# Altium footprint library magnetics.PcbLib: 2 footprints
Each footprint in its own frame and in the unit in brackets; x right, y up, seen from the top. Pads: shape width x height; smd on the part's side, far side on the other; paste and mask are expansions set on the pad; w line width, h text height; cw(c..) or ccw(c..) is an arc to the next point about the centre after c.
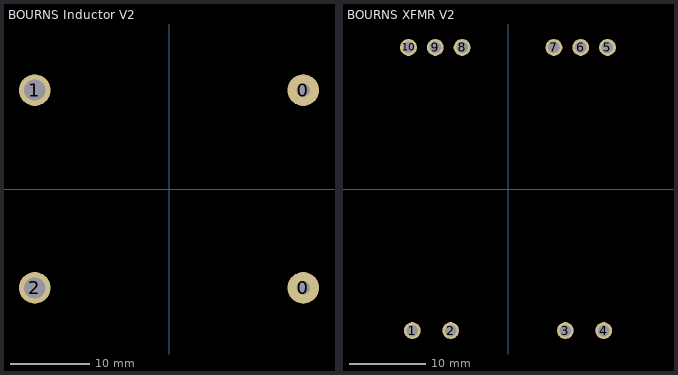
[diagram p0: the footprints below, top view; thin cyan lines are the x and y axes]

## BOURNS Inductor V2 [mm]
pads (4):
  round 4 hole 1.7: 0(16.95,-12.5) 0(16.95,12.5)
  round 4 hole 2.7: 1(-16.95,12.5) 2(-16.95,-12.5)
3D body "B181125 X1 D6885 V0 Inductor.STEP": height 18.43, standoff -2.75, extent -20.725,-17.61 20.725,17.61

## BOURNS XFMR V2 [mm]
pads (10):
  round 2.2 hole 1.5: 1(-12.5,-18.5) 2(-7.5,-18.5) 3(7.5,-18.5) 4(12.5,-18.5) 5(13,18.5) 6(9.5,18.5) 7(6,18.5) 8(-6,18.5) 9(-9.5,18.5) 10(-13,18.5)
3D body "B181134 X0 D6884 V1 Transformer.STEP": height 31.03, standoff -5.47, extent -25.06,-24 25.06,24